# Altium footprint library PCB Lib.PcbLib: 31 footprints (part 1 of 2)
Each footprint in its own frame and in the unit in brackets; x right, y up, seen from the top. Pads: shape width x height; smd on the part's side, far side on the other; paste and mask are expansions set on the pad; w line width, h text height; cw(c..) or ccw(c..) is an arc to the next point about the centre after c.
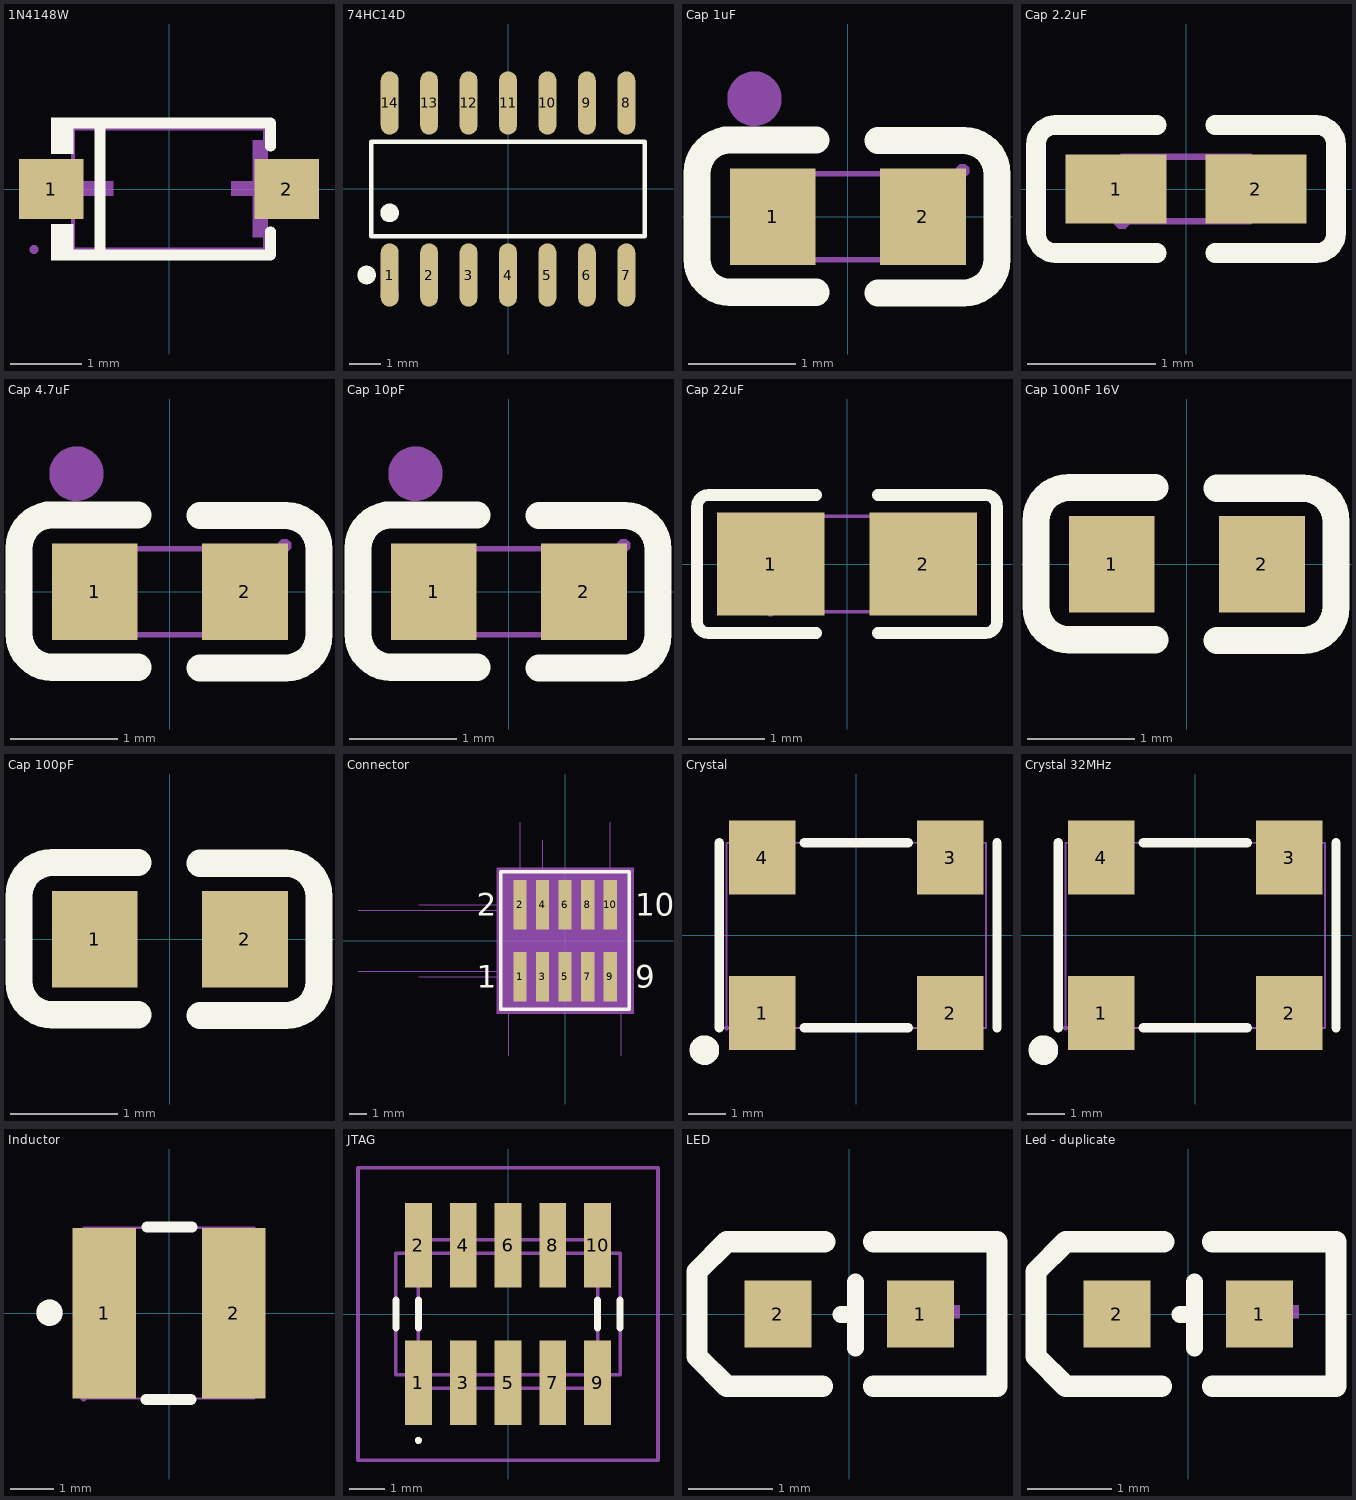
[diagram p0: the footprints below, top view; thin cyan lines are the x and y axes]

## 1N4148W [mm]
pads (2):
  rect 0.91x0.84 smd paste+0 mask+0.051: 1(-1.655,0) 2(1.655,0)
Top Overlay:
  region: -1.35,-0.496 -1.655,-0.496 -1.655,-1.002 -1.35,-1.002
  region: -1.35,0.496 -1.655,0.496 -1.655,1.002 -1.35,1.002
  lines w0.152: -1.426,-0.926 1.426,-0.926 1.426,-0.6 ; -1.426,0.926 1.426,0.926 1.426,0.6 ; -0.971,-0.926 -0.971,0.926
Mechanical 6:
  region: -1.602,0.107 -1.602,-0.097 -0.786,-0.097 -0.786,0.107
  region: 1.386,0.685 1.386,-0.675 1.182,-0.675 1.182,0.685
  region: 1.692,0.107 1.692,-0.097 0.876,-0.097 0.876,0.107
Mechanical 15:
  region: -1.84,-0.85 -1.84,-0.825 -1.875,-0.79 -1.925,-0.79 -1.96,-0.825 -1.96,-0.85 -1.96,-0.875 -1.925,-0.91 -1.875,-0.91 -1.84,-0.875
  region: -1.9,-0.3 -1.55,-0.3 -1.55,0.3 -1.9,0.3
  region: -1.56,-0.3 -1.34,-0.3 -1.34,0.3 -1.56,0.3
  region: 1.9,-0.3 1.55,-0.3 1.55,0.3 1.9,0.3
  region: 1.56,-0.3 1.34,-0.3 1.34,0.3 1.56,0.3
  lines w0.051: -1.35,-0.85 1.35,-0.85 1.35,0.85 -1.35,0.85 -1.35,-0.85
3D body "1N4148W-13-F.STEP": height 1.45, standoff 0, extent -1.825,-0.775 1.825,0.775

## 74HC14D [mm]
pads (14):
  oval 0.574x2.038 smd paste+0 mask+0.051: 1(-3.81,-2.769) 2(-2.54,-2.769) 3(-1.27,-2.769) 4(0,-2.769) 5(1.27,-2.769) 6(2.54,-2.769) 7(3.81,-2.769) 8(3.81,2.769) 9(2.54,2.769) 10(1.27,2.769) 11(0,2.769) 12(-1.27,2.769) 13(-2.54,2.769) 14(-3.81,2.769)
Top Overlay:
  circle w0.3: c-4.549,-2.769 r0.15
  circle w0.3: c-3.81,-0.769 r0.15
  lines w0.152: -4.401,-1.521 4.401,-1.521 4.401,1.521 -4.401,1.521 -4.401,-1.521
Mechanical 15:
  circle w0.3: c-3.81,-3.4 r0.15
3D body "74HC14D,653.STEP": height 1.75, standoff 0, extent -4.318,-3 4.332,3

## Cap 1uF [mm]
pads (2):
  rect 0.8x0.9 smd paste+0 mask+0.051: 1(-0.7,0) 2(0.7,0)
Top Overlay:
  lines w0.254: -0.296,-0.704 -1.096,-0.704 cw(c-1.096,-0.394) -1.406,-0.394 -1.405,0.406 cw(c-1.096,0.406) -1.096,0.715 -0.296,0.715 ; 0.28,-0.71 1.08,-0.71 ccw(c1.08,-0.4) 1.39,-0.4 1.39,0.4 ccw(c1.08,0.4) 1.08,0.71 0.28,0.71
Mechanical 6:
  circle w0.254: c-0.87,1.1 r0.127
Mechanical 15:
  region: 1.13,0.43 1.13,0.455 1.095,0.49 1.045,0.49 1.01,0.455 1.01,0.43 1.01,0.405 1.045,0.37 1.095,0.37 1.13,0.405
  region: -0.8,-0.4 -0.8,0.4 -0.5,0.4 -0.5,-0.4
  region: 0.8,-0.4 0.8,0.4 0.5,0.4 0.5,-0.4
  lines w0.051: -0.8,-0.4 -0.8,0.4 0.8,0.4 0.8,-0.4 -0.8,-0.4
3D body "C603.step": height 0.81, standoff 0.01, extent -0.799,-0.394 0.801,0.406

## Cap 2.2uF [mm]
pads (2):
  rect 0.79x0.54 smd paste-100 mask+0.051: 1(-0.545,0) 2(0.545,0)
Top Overlay:
  lines w0.152: -0.226,-0.499 -1.016,-0.499 cw(c-1.016,-0.346) -1.169,-0.346 -1.169,0.346 cw(c-1.016,0.346) -1.016,0.499 -0.226,0.499 ; 0.226,-0.499 1.016,-0.499 ccw(c1.016,-0.346) 1.169,-0.346 1.169,0.346 ccw(c1.016,0.346) 1.016,0.499 0.226,0.499
Top Paste:
  region: 0.78,0.225 0.78,-0.225 0.73,-0.275 0.25,-0.275 0.18,-0.225 0.18,0.225 0.25,0.275 0.73,0.275
  region: -0.18,0.225 -0.18,-0.225 -0.25,-0.275 -0.73,-0.275 -0.78,-0.225 -0.78,0.225 -0.73,0.275 -0.25,0.275
Mechanical 15:
  region: 0.5,-0.25 0.5,0.25 0.25,0.25 0.25,-0.25
  region: -0.5,-0.25 -0.5,0.25 -0.25,0.25 -0.25,-0.25
  region: -0.44,-0.25 -0.44,-0.225 -0.475,-0.19 -0.525,-0.19 -0.56,-0.225 -0.56,-0.25 -0.56,-0.275 -0.525,-0.31 -0.475,-0.31 -0.44,-0.275
  lines w0.051: -0.5,-0.25 0.5,-0.25 0.5,0.25 -0.5,0.25 -0.5,-0.25
3D body "C0402.STEP": height 0.5, standoff 0, extent -0.5,-0.272 0.5,0.279

## Cap 4.7uF [mm]
pads (2):
  rect 0.8x0.9 smd paste+0 mask+0.051: 1(-0.7,0) 2(0.7,0)
Top Overlay:
  lines w0.254: -0.296,-0.704 -1.096,-0.704 cw(c-1.096,-0.394) -1.406,-0.394 -1.405,0.406 cw(c-1.096,0.406) -1.096,0.715 -0.296,0.715 ; 0.28,-0.71 1.08,-0.71 ccw(c1.08,-0.4) 1.39,-0.4 1.39,0.4 ccw(c1.08,0.4) 1.08,0.71 0.28,0.71
Mechanical 6:
  circle w0.254: c-0.87,1.1 r0.127
Mechanical 15:
  region: 1.13,0.43 1.13,0.455 1.095,0.49 1.045,0.49 1.01,0.455 1.01,0.43 1.01,0.405 1.045,0.37 1.095,0.37 1.13,0.405
  region: -0.8,-0.4 -0.8,0.4 -0.5,0.4 -0.5,-0.4
  region: 0.8,-0.4 0.8,0.4 0.5,0.4 0.5,-0.4
  lines w0.051: -0.8,-0.4 -0.8,0.4 0.8,0.4 0.8,-0.4 -0.8,-0.4
3D body "C603.step": height 0.81, standoff 0.01, extent -0.775,-0.4 0.825,0.4

## Cap 10pF [mm]
pads (2):
  rect 0.8x0.9 smd paste+0 mask+0.051: 1(-0.7,0) 2(0.7,0)
Top Overlay:
  lines w0.254: -0.296,-0.704 -1.096,-0.704 cw(c-1.096,-0.394) -1.406,-0.394 -1.405,0.406 cw(c-1.096,0.406) -1.096,0.715 -0.296,0.715 ; 0.28,-0.71 1.08,-0.71 ccw(c1.08,-0.4) 1.39,-0.4 1.39,0.4 ccw(c1.08,0.4) 1.08,0.71 0.28,0.71
Mechanical 6:
  circle w0.254: c-0.87,1.1 r0.127
Mechanical 15:
  region: 1.13,0.43 1.13,0.455 1.095,0.49 1.045,0.49 1.01,0.455 1.01,0.43 1.01,0.405 1.045,0.37 1.095,0.37 1.13,0.405
  region: -0.8,-0.4 -0.8,0.4 -0.5,0.4 -0.5,-0.4
  region: 0.8,-0.4 0.8,0.4 0.5,0.4 0.5,-0.4
  lines w0.051: -0.8,-0.4 -0.8,0.4 0.8,0.4 0.8,-0.4 -0.8,-0.4
3D body "C603.step": height 0.81, standoff 0.01, extent -0.8,-0.4 0.8,0.4

## Cap 22uF [mm]
pads (2):
  rect 1.41x1.35 smd paste-100 mask+0.051: 1(-1,0) 2(1,0)
Top Overlay:
  lines w0.152: -0.401,-0.904 -1.811,-0.904 cw(c-1.811,-0.751) -1.964,-0.751 -1.964,0.751 cw(c-1.811,0.751) -1.811,0.904 -0.401,0.904 ; 0.401,-0.904 1.811,-0.904 ccw(c1.811,-0.751) 1.964,-0.751 1.964,0.751 ccw(c1.811,0.751) 1.811,0.904 0.401,0.904
Top Paste:
  region: 1.705,0.64 1.705,-0.64 1.655,-0.69 0.505,-0.69 0.455,-0.64 0.45,-0.23 0.9,-0.23 0.9,0.22 0.46,0.22 0.455,0.64 0.505,0.69 1.655,0.69
  region: -1.705,-0.64 -1.705,0.64 -1.655,0.69 -0.505,0.69 -0.455,0.64 -0.45,0.23 -0.9,0.23 -0.9,-0.22 -0.46,-0.22 -0.455,-0.64 -0.505,-0.69 -1.655,-0.69
Mechanical 15:
  region: 1,0.625 1,-0.625 0.5,-0.625 0.5,0.625
  region: -1,-0.625 -1,0.625 -0.5,0.625 -0.5,-0.625
  region: -0.94,-0.625 -0.941,-0.601 -0.976,-0.568 -1.024,-0.568 -1.059,-0.601 -1.06,-0.625 -1.059,-0.649 -1.024,-0.683 -0.976,-0.683 -0.941,-0.649
  lines w0.051: -1,-0.625 1,-0.625 1,0.625 -1,0.625 -1,-0.625
3D body "C805.step": height 0.61, standoff 0.01, extent -1.051,-0.65 0.949,0.6

## Cap 100nF 16V [mm]
pads (2):
  rect 0.8x0.9 smd paste+0 mask+0.051: 1(-0.7,0) 2(0.7,0)
Top Overlay:
  lines w0.254: -0.296,-0.704 -1.096,-0.704 cw(c-1.096,-0.394) -1.406,-0.394 -1.405,0.406 cw(c-1.096,0.406) -1.096,0.715 -0.296,0.715 ; 0.28,-0.71 1.08,-0.71 ccw(c1.08,-0.4) 1.39,-0.4 1.39,0.4 ccw(c1.08,0.4) 1.08,0.71 0.28,0.71
3D body "C603.step": height 0.81, standoff 0.01, extent -0.806,-0.398 0.794,0.402

## Cap 100pF [mm]
pads (2):
  rect 0.8x0.9 smd paste+0 mask+0.051: 1(-0.7,0) 2(0.7,0)
Top Overlay:
  lines w0.254: -0.296,-0.704 -1.096,-0.704 cw(c-1.096,-0.394) -1.406,-0.394 -1.405,0.406 cw(c-1.096,0.406) -1.096,0.715 -0.296,0.715 ; 0.28,-0.71 1.08,-0.71 ccw(c1.08,-0.4) 1.39,-0.4 1.39,0.4 ccw(c1.08,0.4) 1.08,0.71 0.28,0.71
3D body "C603.step": height 0.81, standoff 0.01, extent -0.813,-0.407 0.787,0.393

## Connector [mm]
pads (10):
  rect 0.74x2.79 smd mask+0: 1(-2.54,-2.032) 2(-2.54,2.032) 3(-1.27,-2.032) 4(-1.27,2.032) 5(0,-2.032) 6(0,2.032) 7(1.27,-2.032) 8(1.27,2.032) 9(2.54,-2.032) 10(2.54,2.032)
Top Overlay:
  lines w0.2: -3.625,-3.878 -3.625,3.878 3.625,3.878 3.625,-3.878 -3.625,-3.878
  text "1" at -4.995,-2.667 h1.27
  text "2" at -4.995,1.397 h1.27
  text "9" at 3.966,-2.667 h1.27
  text "10" at 3.966,1.397 h1.27
Top Paste:
  region: -2.17,-3.427 -2.91,-3.427 -2.91,-0.637 -2.17,-0.637
  region: -2.17,0.637 -2.91,0.637 -2.91,3.427 -2.17,3.427
  region: -0.9,-3.427 -1.64,-3.427 -1.64,-0.637 -0.9,-0.637
  region: -0.9,0.637 -1.64,0.637 -1.64,3.427 -0.9,3.427
  region: 0.37,-3.427 -0.37,-3.427 -0.37,-0.637 0.37,-0.637
  region: 0.37,0.637 -0.37,0.637 -0.37,3.427 0.37,3.427
  region: 1.64,-3.427 0.9,-3.427 0.9,-0.637 1.64,-0.637
  region: 1.64,0.637 0.9,0.637 0.9,3.427 1.64,3.427
  region: 2.91,-3.427 2.17,-3.427 2.17,-0.637 2.91,-0.637
  region: 2.91,0.637 2.17,0.637 2.17,3.427 2.91,3.427
Top Solder:
  region: -2.119,-3.478 -2.961,-3.478 -2.961,-0.586 -2.119,-0.586
  region: -2.119,0.586 -2.961,0.586 -2.961,3.478 -2.119,3.478
  region: -0.849,-3.478 -1.691,-3.478 -1.691,-0.586 -0.849,-0.586
  region: -0.849,0.586 -1.691,0.586 -1.691,3.478 -0.849,3.478
  region: 0.421,-3.478 -0.421,-3.478 -0.421,-0.586 0.421,-0.586
  region: 0.421,0.586 -0.421,0.586 -0.421,3.478 0.421,3.478
  region: 1.691,-3.478 0.849,-3.478 0.849,-0.586 1.691,-0.586
  region: 1.691,0.586 0.849,0.586 0.849,3.478 1.691,3.478
  region: 2.961,-3.478 2.119,-3.478 2.119,-0.586 2.961,-0.586
  region: 2.961,0.586 2.119,0.586 2.119,3.478 2.961,3.478
Mechanical 13:
  lines w0: -11.687,-1.714 -3.876,-1.714 ; -11.687,1.714 -3.876,1.714 ; -8.258,-2.032 -3.241,-2.032 ; -8.258,2.032 -3.241,2.032 ; -3.175,-6.48 -3.175,-2.416 ; -2.54,5.654 -2.54,2.733 -2.54,6.67 ; -1.27,2.733 -1.27,5.654 ; 2.54,2.733 2.54,6.67 ; 3.175,-6.48 3.175,-2.416
  lines w0.1: -2.743,-1.714 -2.743,-2.921 -2.337,-2.921 -2.337,-1.714 ; -2.743,1.714 -2.743,2.921 -2.337,2.921 -2.337,1.714 ; -1.473,-1.714 -1.473,-2.921 -1.067,-2.921 -1.067,-1.714 ; -1.473,1.714 -1.473,2.921 -1.067,2.921 -1.067,1.714 ; -0.203,-1.714 -0.203,-2.921 0.203,-2.921 0.203,-1.714 ; -0.203,1.714 -0.203,2.921 0.203,2.921 0.203,1.714 ; 1.067,-1.714 1.067,-2.921 1.473,-2.921 1.473,-1.714 ; 1.067,1.714 1.067,2.921 1.473,2.921 1.473,1.714 ; 2.337,-1.714 2.337,-2.921 2.743,-2.921 2.743,-1.714 ; 2.337,1.714 2.337,2.921 2.743,2.921 2.743,1.714 ; -3.625,-3.878 -3.625,3.878 3.625,3.878 3.625,-3.878 -3.625,-3.878 ; -3.175,-1.714 -3.175,1.714 -1.905,1.714 -0.635,1.714 0.635,1.714 1.905,1.714 3.175,1.714 3.175,-1.714 1.905,-1.714 0.635,-1.714 -0.635,-1.714 -1.905,-1.714 -3.175,-1.714 ; -2.743,-0.838 -2.337,-0.838 -2.337,-0.432 -2.743,-0.432 -2.743,-0.838 ; -2.743,0.432 -2.743,0.838 -2.337,0.838 -2.337,0.432 -2.743,0.432 ; -1.473,-0.838 -1.067,-0.838 -1.067,-0.432 -1.473,-0.432 -1.473,-0.838 ; -1.473,0.432 -1.473,0.838 -1.067,0.838 -1.067,0.432 -1.473,0.432 ; -0.203,-0.838 0.203,-0.838 0.203,-0.432 -0.203,-0.432 -0.203,-0.838 ; -0.203,0.432 -0.203,0.838 0.203,0.838 0.203,0.432 -0.203,0.432 ; 1.067,-0.838 1.473,-0.838 1.473,-0.432 1.067,-0.432 1.067,-0.838 ; 1.067,0.432 1.067,0.838 1.473,0.838 1.473,0.432 1.067,0.432 ; 2.337,-0.838 2.743,-0.838 2.743,-0.432 2.337,-0.432 2.337,-0.838 ; 2.337,0.432 2.337,0.838 2.743,0.838 2.743,0.432 2.337,0.432
  text "1" at -4.995,-2.667 h1.27
  text "2" at -4.995,1.397 h1.27
  text "9" at 3.966,-2.667 h1.27
  text "10" at 3.966,1.397 h1.27
Mechanical 15:
  region: 3.86,-4.113 -3.86,-4.113 -3.86,4.113 3.86,4.113
3D body "Connector 10P.STEP": height 4.55, standoff 0, extent -3.175,-2.718 3.175,2.782

## Crystal [mm]
pads (4):
  rect 1.8x2 smd paste+0 mask+0.051: 1(-2.54,-2.1) 2(2.54,-2.1) 3(2.54,2.1) 4(-2.54,2.1)
Top Overlay:
  circle w0.4: c-4.1,-3.1 r0.2
  lines w0.254: -3.7,-2.5 -3.7,2.5 ; -1.4,-2.5 1.4,-2.5 ; -1.4,2.5 1.4,2.5 ; 3.8,-2.5 3.8,2.5
Mechanical 6:
  circle w0.45: c-2.6,-2.2 r0.225
  region: 2.85,-1.85 2.85,-2.45 3.1,-2.45 3.15,-2.4 3.15,-1.9 3.1,-1.85 2.95,-1.85 2.95,-1.9 3.05,-1.9 3.1,-1.95 3.1,-2.35 3.05,-2.4 2.9,-2.4 2.9,-1.85
  region: 2.4,-2.45 2.4,-1.85 2.45,-1.85 2.65,-2.3 2.65,-1.85 2.7,-1.85 2.7,-2.45 2.65,-2.45 2.45,-2 2.45,-2.4 2.45,-2.45
  region: 2.25,-1.9 2.2,-1.85 1.95,-1.85 1.9,-1.9 1.9,-2.4 1.95,-2.45 2.2,-2.45 2.25,-2.4 2.25,-2.3 2.25,-2.25 2.1,-2.25 2.1,-2.3 2.2,-2.3 2.2,-2.35 2.15,-2.4 2,-2.4 1.95,-2.35 1.95,-1.95 2,-1.9 2.15,-1.9 2.2,-1.95 2.2,-2 2.25,-2
  region: -1.775,2.15 -1.825,2.2 -2.075,2.2 -2.125,2.15 -2.125,1.65 -2.075,1.6 -1.825,1.6 -1.775,1.65 -1.775,1.75 -1.825,1.75 -1.825,1.7 -1.875,1.65 -2.025,1.65 -2.075,1.7 -2.075,2.1 -2.025,2.15 -1.875,2.15 -1.825,2.1 -1.825,2.05 -1.775,2.05
  region: -2.325,2.15 -2.375,2.2 -2.625,2.2 -2.675,2.15 -2.675,1.65 -2.625,1.6 -2.375,1.6 -2.325,1.65 -2.325,1.75 -2.375,1.75 -2.375,1.7 -2.425,1.65 -2.575,1.65 -2.625,1.7 -2.625,2.1 -2.575,2.15 -2.425,2.15 -2.375,2.1 -2.375,2.05 -2.325,2.05
  region: -3.348,2.186 -3.221,2.186 -3.094,1.805 -2.967,2.186 -2.84,2.186 -3.094,1.551
Mechanical 15:
  region: 1.84,-2.5 1.84,-1.3 3.24,-1.3 3.24,-2.5
  region: 1.84,1.3 1.84,2.5 3.24,2.5 3.24,1.3
  region: -3.24,1.3 -3.24,2.5 -1.84,2.5 -1.84,1.3
  region: -3.24,-2.5 -3.24,-1.3 -1.84,-1.3 -1.84,-2.5
  region: -3.44,-2.5 -3.44,-2.475 -3.475,-2.44 -3.525,-2.44 -3.56,-2.475 -3.56,-2.5 -3.56,-2.525 -3.525,-2.56 -3.475,-2.56 -3.44,-2.525
  lines w0.051: -3.5,-2.5 -3.5,2.5 3.5,2.5 3.5,-2.5 -3.5,-2.5

## Crystal 32MHz [mm]
pads (4):
  rect 1.8x2 smd paste+0 mask+0.051: 1(-2.54,-2.1) 2(2.54,-2.1) 3(2.54,2.1) 4(-2.54,2.1)
Top Overlay:
  circle w0.4: c-4.1,-3.1 r0.2
  lines w0.254: -3.7,-2.5 -3.7,2.5 ; -1.4,-2.5 1.4,-2.5 ; -1.4,2.5 1.4,2.5 ; 3.8,-2.5 3.8,2.5
Mechanical 6:
  circle w0.45: c-2.6,-2.2 r0.225
  region: 2.85,-1.85 2.85,-2.45 3.1,-2.45 3.15,-2.4 3.15,-1.9 3.1,-1.85 2.95,-1.85 2.95,-1.9 3.05,-1.9 3.1,-1.95 3.1,-2.35 3.05,-2.4 2.9,-2.4 2.9,-1.85
  region: 2.4,-2.45 2.4,-1.85 2.45,-1.85 2.65,-2.3 2.65,-1.85 2.7,-1.85 2.7,-2.45 2.65,-2.45 2.45,-2 2.45,-2.4 2.45,-2.45
  region: 2.25,-1.9 2.2,-1.85 1.95,-1.85 1.9,-1.9 1.9,-2.4 1.95,-2.45 2.2,-2.45 2.25,-2.4 2.25,-2.3 2.25,-2.25 2.1,-2.25 2.1,-2.3 2.2,-2.3 2.2,-2.35 2.15,-2.4 2,-2.4 1.95,-2.35 1.95,-1.95 2,-1.9 2.15,-1.9 2.2,-1.95 2.2,-2 2.25,-2
  region: -1.775,2.15 -1.825,2.2 -2.075,2.2 -2.125,2.15 -2.125,1.65 -2.075,1.6 -1.825,1.6 -1.775,1.65 -1.775,1.75 -1.825,1.75 -1.825,1.7 -1.875,1.65 -2.025,1.65 -2.075,1.7 -2.075,2.1 -2.025,2.15 -1.875,2.15 -1.825,2.1 -1.825,2.05 -1.775,2.05
  region: -2.325,2.15 -2.375,2.2 -2.625,2.2 -2.675,2.15 -2.675,1.65 -2.625,1.6 -2.375,1.6 -2.325,1.65 -2.325,1.75 -2.375,1.75 -2.375,1.7 -2.425,1.65 -2.575,1.65 -2.625,1.7 -2.625,2.1 -2.575,2.15 -2.425,2.15 -2.375,2.1 -2.375,2.05 -2.325,2.05
  region: -3.348,2.186 -3.221,2.186 -3.094,1.805 -2.967,2.186 -2.84,2.186 -3.094,1.551
Mechanical 15:
  region: 1.84,-2.5 1.84,-1.3 3.24,-1.3 3.24,-2.5
  region: 1.84,1.3 1.84,2.5 3.24,2.5 3.24,1.3
  region: -3.24,1.3 -3.24,2.5 -1.84,2.5 -1.84,1.3
  region: -3.24,-2.5 -3.24,-1.3 -1.84,-1.3 -1.84,-2.5
  region: -3.44,-2.5 -3.44,-2.475 -3.475,-2.44 -3.525,-2.44 -3.56,-2.475 -3.56,-2.5 -3.56,-2.525 -3.525,-2.56 -3.475,-2.56 -3.44,-2.525
  lines w0.051: -3.5,-2.5 -3.5,2.5 3.5,2.5 3.5,-2.5 -3.5,-2.5

## Inductor [mm]
pads (2):
  rect 1.45x3.9 smd paste+0 mask+0.051: 1(-1.475,0) 2(1.475,0)
Top Overlay:
  circle w0.3: c-2.73,0.01 r0.15
  lines w0.254: -0.52,-1.97 0.5,-1.97 ; -0.5,1.97 0.52,1.97
Mechanical 6:
  circle w0.3: c-2.73,0.01 r0.15
Mechanical 15:
  region: -1.95,1.95 -0.76,1.95 -0.76,-1.95 -1.95,-1.95
  region: 0.76,1.95 1.95,1.95 1.95,-1.95 0.76,-1.95
  region: -1.89,-1.95 -1.891,-1.925 -1.926,-1.891 -1.975,-1.891 -2.01,-1.926 -2.01,-1.95 -2.01,-1.974 -1.975,-2.009 -1.926,-2.009 -1.891,-1.974
  lines w0.051: -1.95,-1.95 1.95,-1.95 1.95,1.95 -1.95,1.95 -1.95,-1.95
3D body "Inductor.STEP": height 1.8, standoff 0, extent -1.93,-1.95 1.97,1.95

## JTAG [mm]
pads (10):
  rect 0.76x2.4 smd: 1(-2.54,-1.95) 2(-2.54,1.95) 3(-1.27,-1.95) 4(-1.27,1.95) 5(0,-1.95) 6(0,1.95) 7(1.27,-1.95) 8(1.27,1.95) 9(2.54,-1.95) 10(2.54,1.95)
Top Overlay:
  lines w0.1: -2.54,-3.63 ccw(c-2.54,-3.58) -2.54,-3.53 ccw(c-2.54,-3.58) -2.54,-3.63
  lines w0.2: -3.175,-0.4 -3.175,0.4 ; -2.54,-0.4 -2.54,0.4 ; 2.54,-0.4 2.54,0.4 ; 3.175,-0.4 3.175,0.4
Mechanical 15:
  lines w0.1: -3.175,-1.715 3.175,-1.715 3.175,1.715 -3.175,1.715 -3.175,-1.715 ; -2.54,-2.1 2.54,-2.1 2.54,2.1 -2.54,2.1 -2.54,-2.1
Mechanical 20:
  lines w0.1: -4.25,-4.15 4.25,-4.15 4.25,4.15 -4.25,4.15 -4.25,-4.15
3D body "Connector 10P.STEP": height 4.55, standoff 0, extent -3.175,-2.725 3.175,2.775

## LED [mm]
pads (2):
  rect 0.8x0.8 smd paste+0 mask+0.051: 1(0.851,0) 2(-0.851,0)
Top Overlay:
  lines w0.203: -0.099,-0.008 0.076,-0.008 ; 0.076,-0.406 0.076,0.381
  lines w0.254: -0.318,-0.864 -1.46,-0.864 -1.816,-0.508 -1.816,0.508 -1.46,0.864 -0.292,0.864 ; 0.292,-0.864 1.765,-0.864 1.765,0.864 0.292,0.864
Mechanical 15:
  region: 0.66,0.102 1.321,0.102 1.321,-0.051 0.66,-0.051
  region: 0.936,-0.275 0.936,0.385 1.088,0.385 1.088,-0.275
  region: -1.193,0.05 -0.533,0.05 -0.533,-0.103 -1.193,-0.103
3D body "Led 603.STEP": height 1.5, standoff 0, extent -1.5,-0.75 1.5,0.75

## Led - duplicate [mm]
pads (2):
  rect 0.8x0.8 smd paste+0 mask+0.051: 1(0.851,0) 2(-0.851,0)
Top Overlay:
  lines w0.203: -0.099,-0.008 0.076,-0.008 ; 0.076,-0.406 0.076,0.381
  lines w0.254: -0.318,-0.864 -1.46,-0.864 -1.816,-0.508 -1.816,0.508 -1.46,0.864 -0.292,0.864 ; 0.292,-0.864 1.765,-0.864 1.765,0.864 0.292,0.864
Mechanical 15:
  region: 0.66,0.102 1.321,0.102 1.321,-0.051 0.66,-0.051
  region: 0.936,-0.275 0.936,0.385 1.088,0.385 1.088,-0.275
  region: -1.193,0.05 -0.533,0.05 -0.533,-0.103 -1.193,-0.103